# EAGLE library part 98414-G06-08ULF (library OpenMotics)
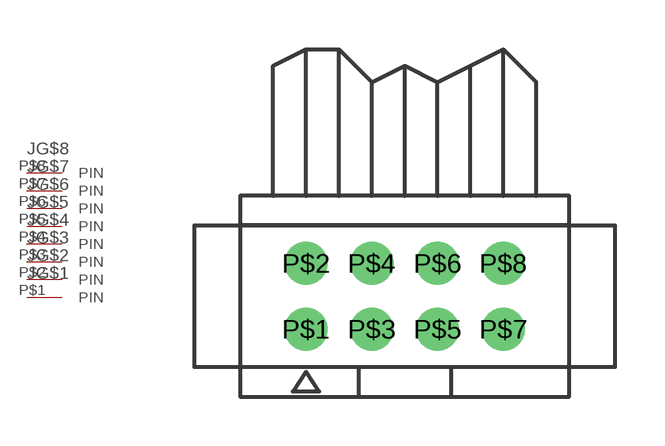
[diagram p23: symbol with the pads of 98414-G06-08ULF; footprint 98414-G06-08ULF]

Designator prefix J; gates G$1=PIN G$2=PIN G$3=PIN G$4=PIN G$5=PIN G$6=PIN G$7=PIN G$8=PIN

## 98414-G06-08ULF  [98414-G06-08ULF]
P$1  G$1:PIN
P$2  G$2:PIN
P$3  G$3:PIN
P$4  G$4:PIN
P$5  G$5:PIN
P$6  G$6:PIN
P$7  G$7:PIN
P$8  G$8:PIN

## Footprint 98414-G06-08ULF (pad centres in mm)
drill 0.8 round: P$1 -3,-1; P$2 -3,1; P$3 -1,-1; P$4 -1,1; P$5 1,-1; P$6 1,1; P$7 3,-1; P$8 3,1